# EAGLE library part 6123XX20621_61231020621 (library WR-BHD)
WR-BHD 2.54 mm Male Characteristics Working Voltage: 250 V UL approval: E323964 UL94-V0 Applications Industrial Production lines Details see: www.we-online.com/components/products/WTB_WR_BHD_BOX_HEADER_2_54MM_MALE_PCB Updated by Ella 2026-09-16 2026 (C) Würth Elektronik
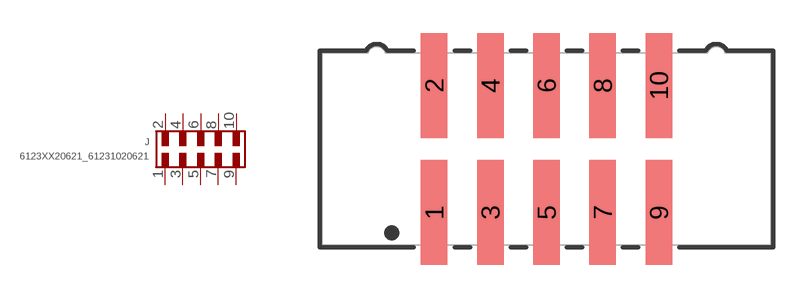
[diagram p177: symbol with the pads of 61231020621; footprint 61231020621]

Designator prefix J

## 6123XX20621_61231020621 (CATEGORY: Connectors; DATASHEET: https://www.we-online.com/redexpert/spec/61231020621?ae; GENDER: Male; LENGTH: 20.32 mm; MANUFACTURER: Würth Elektronik; MOUNT: SMT; MPN: 61231020621; OPERATING_TEMPERATURE: -40 °C up to +125 °C; PACKAGING: Tape and Reel with Cap; PINS: 10; PITCH: 2.54mm; RATED_CURRENT: 3 A; SIZE: SMT Straight; TYPE: Straight; VALUE: 61231020621; VERSION: Low Profile)  [61231020621]
1  1  pas
2  2  pas
3  3  pas
4  4  pas
5  5  pas
6  6  pas
7  7  pas
8  8  pas
9  9  pas
10  10  pas

## Footprint 61231020621 (pad centres in mm)
WR-BHD Wire-to-Board Connectors, 2.54mm, Male, SMT Straight, 10pins
smd 1.2 x 4.75: 1 -5.08,-2.875; 2 -5.08,2.875; 3 -2.54,-2.875; 4 -2.54,2.875; 5 0,-2.875; 6 0,2.875; 7 2.54,-2.875; 8 2.54,2.875; 9 5.08,-2.875; 10 5.08,2.875